# Altium schematic symbol library SpaceLocator.SchLib: 3 symbols
Pins are listed as number, name and electrical type; pins without a type are passive.

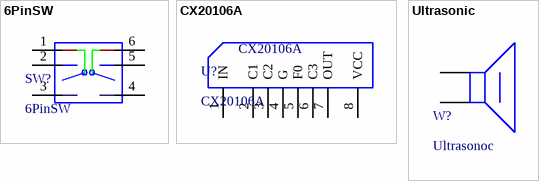
[diagram p0: symbols 6PinSW to Ultrasonic]

## 6PinSW
designator SW?
footprint SW-7X7
pins: 1 3, 2 4, 3 5, 4 6, 5 7, 6 8

## CX20106A
designator U?
footprint 8Pin_100mil
pins: 1 IN, 2 C1, 3 C2, 4 G, 5 F0, 6 C3, 7 OUT, 8 VCC

## Ultrasonic
designator W?, comment Ultrasonoc
footprint Circle_1cm
pins: 1, 2